# Altium footprint library RC_Car_ATMEGA8.PcbLib: 23 footprints (part 1 of 2)
Each footprint in its own frame and in the unit in brackets; x right, y up, seen from the top. Pads: shape width x height; smd on the part's side, far side on the other; paste and mask are expansions set on the pad; w line width, h text height; cw(c..) or ccw(c..) is an arc to the next point about the centre after c.
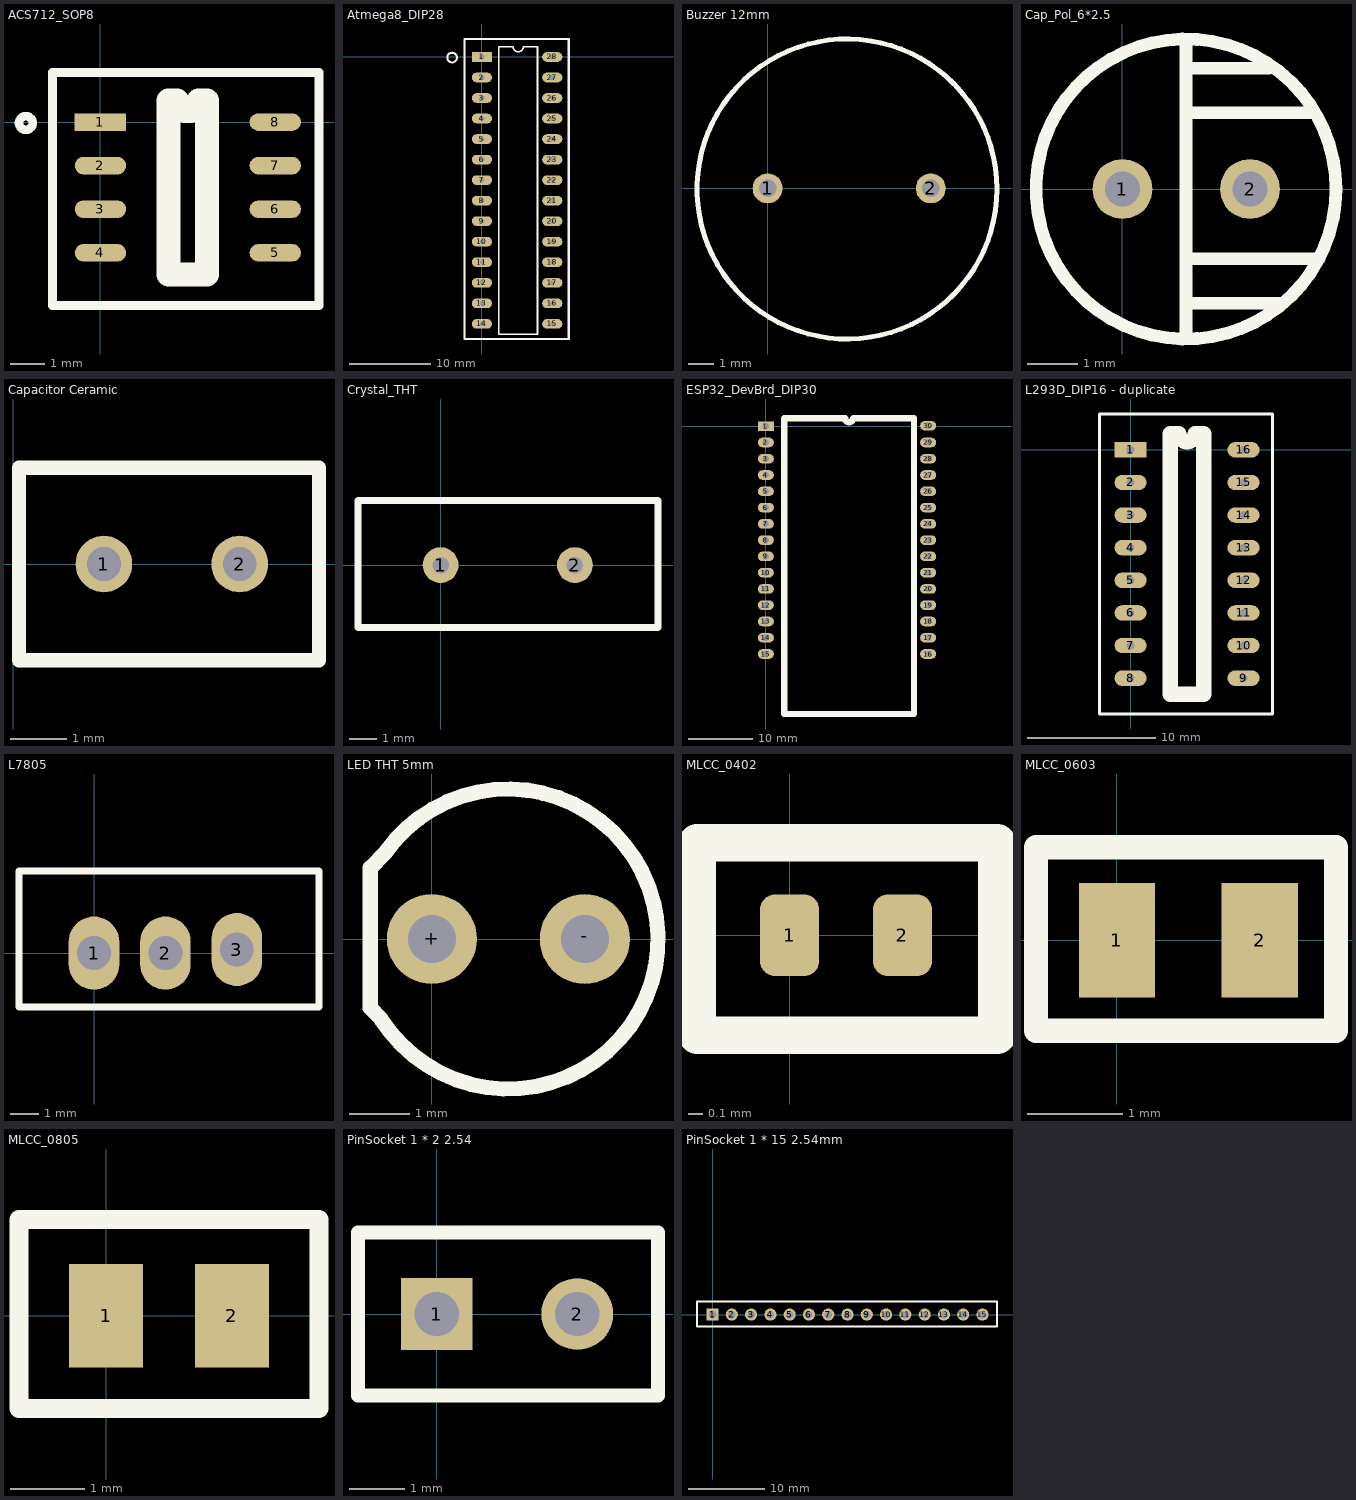
[diagram p0: the footprints below, top view; thin cyan lines are the x and y axes]

## ACS712_SOP8 [mm]
pads (8):
  rect 1.5x0.51 smd: 1(0,0)
  oval 1.5x0.51 smd: 2(0,-1.27) 3(0,-2.54) 4(0,-3.81) 5(5.1,-3.81) 6(5.1,-2.54) 7(5.1,-1.27) 8(5.1,0)
Top Overlay:
  circle w0.254: c-2.175,-0.025 r0.2
  lines w0.254: -1.4,-5.35 6.375,-5.35 6.375,1.45 -1.4,1.45 -1.4,-5.35
  lines w0.7: 1.985,-4.445 1.985,0.635 2.232,0.635 ccw(c2.55,0.635) 2.867,0.635 3.115,0.635 3.115,-4.445 1.985,-4.445
Assembly Notes:
  text ".Designator" at -0.425,-2.125 h0.6
3D body "ACS712ELCTR-05B-T.STEP": height 1.75, standoff 0, extent -0.475,-4.375 5.525,0.525

## Atmega8_DIP28 [mm]
pads (28):
  rect 2.5x1.2 hole 0.6: 1(0,0)
  oval 2.5x1.2 hole 0.6: 2(0,-2.54) 3(0,-5.08) 4(0,-7.62) 5(0,-10.16) 6(0,-12.7) 7(0,-15.24) 8(0,-17.78) 9(0,-20.32) 10(0,-22.86) 11(0,-25.4) 12(0,-27.94) 13(0,-30.48) 14(0,-33.02) 15(8.7,-33.02) 16(8.7,-30.48) 17(8.7,-27.94) 18(8.7,-25.4) 19(8.7,-22.86) 20(8.7,-20.32) 21(8.7,-17.78) 22(8.7,-15.24) 23(8.7,-12.7) 24(8.7,-10.16) 25(8.7,-7.62) 26(8.7,-5.08) 27(8.7,-2.54) 28(8.7,0)
Top Overlay:
  circle w0.254: c-3.7,-0.075 r0.597
  lines w0.2: 3.8,1.27 2.085,1.27 2.085,-34.29 6.875,-34.29 6.875,-24.695 6.875,-8.325 6.875,1.27 5.125,1.27 ; 3.84,1.275 ccw(c4.475,1.275) 5.11,1.275
  lines w0.254: -2.142,-34.9 10.735,-34.9 10.735,2.225 -2.142,2.225 -2.142,-34.9
Assembly Notes:
  text ".Designator" at 1.65,-16.575 h0.6
3D body "ATMEGA8A-PU--3DModel-STEP-56544.STEP": height 4.57, standoff -3.43, extent -0.66,-33.848 9.5,0.823

## Buzzer 12mm [mm]
pads (2):
  round 1.2 hole 0.7: 1(0,0) 2(6.525,0)
Top Overlay:
  circle w0.2: c3.175,-0.025 r6
Assembly Notes:
  text ".Designator" at 0.275,-1.325 h0.6
3D body "CEM-1203-42---3DModel-STEP-56544.STEP": height 8.5, standoff -5.5, extent -2.7,-6 9.3,6

## Cap_Pol_6*2.5 [mm]
pads (2):
  round 1.2 hole 0.7 mask+0.07: 1(0,0) 2(2.55,0)
Top Overlay:
  circle w0.254: c1.27,0 r3
  lines w0.254: 1.27,-2.921 1.27,2.921 ; 1.27,-2.286 3.175,-2.286 ; 1.27,-1.397 3.937,-1.397 ; 1.27,1.524 3.81,1.524 ; 1.27,2.413 2.921,2.413
Assembly Notes:
  text ".Designator" at -1.825,0.725 h0.6
3D body "C_Radial_D6.3mm_H11.0mm_P2.50mm.step": height 11, standoff -2, extent -1.9,-3.15 4.4,3.15

## Capacitor Ceramic [mm]
pads (2):
  round 1 hole 0.6 mask+0.102: 1(1.6,0) 2(4,0)
Top Overlay:
  lines w0.254: 0.1,-1.7 5.4,-1.7 5.4,1.7 0.1,1.7 0.1,-1.7
Assembly Notes:
  text ".Designator" at -0.35,-0.15 h0.6
3D body "C_Disc_D5.0mm_W2.5mm_P2.50mm.step": height 5.1, standoff -2, extent 0.252,-1.25 5.25,1.25

## Crystal_THT [mm]
pads (2):
  round 1.3 hole 0.6 mask+0.102: 1(0,0) 2(4.88,0)
Top Overlay:
  lines w0.254: -3,-2.275 7.9,-2.275 7.9,2.35 -3,2.35 -3,-2.275
Assembly Notes:
  text ".Designator" at -0.625,-0.125 h0.6
3D body "Crystal_HC18-U_Vertical.step": height 13.1, standoff -2.9, extent -2.989,-2.292 7.911,2.358

## ESP32_DevBrd [mm]

## ESP32_DevBrd_DIP30 [mm]
pads (30):
  rect 2.5x1.5 hole 1: 1(0,0)
  oval 2.5x1.5 hole 1: 2(0,-2.54) 3(0,-5.08) 4(0,-7.62) 5(0,-10.16) 6(0,-12.7) 7(0,-15.24) 8(0,-17.78) 9(0,-20.32) 10(0,-22.86) 11(0,-25.4) 12(0,-27.94) 13(0,-30.48) 14(0,-33.02) 15(0,-35.56) 16(25.325,-35.56) 17(25.325,-33.02) 18(25.325,-30.48) 19(25.325,-27.94) 20(25.325,-25.4) 21(25.325,-22.86) 22(25.325,-20.32) 23(25.325,-17.78) 24(25.325,-15.24) 25(25.325,-12.7) 26(25.325,-10.16) 27(25.325,-7.62) 28(25.325,-5.08) 29(25.325,-2.54) 30(25.325,0.075)
Top Overlay:
  lines w1: 2.885,-44.925 23.115,-44.925 23.115,1.27 13.635,1.27 cw(c13,1.27) 12.365,1.27 2.885,1.27 2.885,-44.925
3D body "ESP32-DEVKITC--3DModel-STEP-56544.STEP": height 7.25, standoff -5.44, extent -1.395,-50.525 26.545,4.575

## L293D_DIP16 - duplicate [mm]
pads (16):
  rect 2.5x1.2 hole 0.6: 1(0,0)
  oval 2.5x1.2 hole 0.6: 2(0,-2.54) 3(0,-5.08) 4(0,-7.62) 5(0,-10.16) 6(0,-12.7) 7(0,-15.24) 8(0,-17.78) 9(8.8,-17.78) 10(8.8,-15.24) 11(8.8,-12.7) 12(8.8,-10.16) 13(8.8,-7.62) 14(8.8,-5.08) 15(8.8,-2.54) 16(8.8,0)
Top Overlay:
  lines w0.254: -2.413,-20.574 11.049,-20.574 11.049,2.794 -2.413,2.794 -2.413,-20.574
  lines w1.2: 3.085,-19.05 5.715,-19.05 5.715,1.27 5.035,1.27 cw(c4.4,1.27) 3.765,1.27 3.085,1.27 3.085,-19.05
Assembly Notes:
  text ".Designator" at 0.685,1.52 h0.6
3D body "L293D--3DModel-STEP-56544.STEP": height 5.1, standoff -3.3, extent -0.13,-18.839 9.111,1.161

## L7805 [mm] "Voltage regulator"
pads (3):
  oval 1.8x2.6 hole 1.2 mask+0.102: 1(0,0) 2(2.54,0) 3(5.08,0.127)
Top Overlay:
  lines w0.254: -2.667,-1.918 -2.667,2.92 8.001,2.92 8.001,1.71 8.001,-0.709 8.001,-1.918 -2.667,-1.918
3D body "TO-220-3_Vertical.step": height 22.77, standoff -5.75, extent -2.509,-1.365 7.741,3.09

## LED THT 5mm [mm]
pads (2):
  round 1.5 hole 0.8 mask+0.102: +(0,0) -(2.55,0)
Top Overlay:
  lines w0.254: -1.025,-1.152 -0.847,-1.33 ccw(c1.27,0) -0.778,1.434 -1.025,1.187 -1.025,-1.136 -1.025,-1.152
Assembly Notes:
  text ".Designator" at -1.728,-0.258 h0.6
3D body "LED_D5.0mm.step": height 11.6, standoff -2.5, extent -1.23,-2.898 4.158,2.898

## MLCC_0402 [mm]
pads (2):
  rrect50% 0.4x0.55 smd mask+0.07: 1(0,0) 2(0.762,0)
Top Overlay:
  lines w0.254: -0.625,-0.675 1.4,-0.675 1.4,0.625 -0.625,0.625 -0.625,-0.675
Assembly Notes:
  text ".Designator" at -0.585,-0.137 h0.2
3D body "C_0402_1005Metric.step": height 0.5, standoff 0, extent -0.111,-0.25 0.889,0.25

## MLCC_0603 [mm]
pads (2):
  rect 0.8x1.2 smd mask+0.102: 1(0,0) 2(1.5,0)
Top Overlay:
  lines w0.254: -0.85,-0.95 2.3,-0.95 2.3,0.975 -0.85,0.975 -0.85,-0.95
Assembly Notes:
  text ".Designator" at -2.05,-0.075 h0.6
3D body "C_0603_1608Metric.step": height 0.8, standoff 0, extent -0.1,-0.375 1.5,0.425

## MLCC_0805 [mm]
pads (2):
  rect 1x1.4 smd mask+0.102: 1(0,0) 2(1.7,0)
Top Overlay:
  lines w0.254: -1.175,-1.25 2.875,-1.25 2.875,1.3 -1.175,1.3 -1.175,-1.25
Assembly Notes:
  text ".Designator" at -2.1,-0.1 h0.6
3D body "C_0805_2012Metric.step": height 1.25, standoff 0, extent -0.175,-0.625 1.825,0.625

## PinSocket 1 * 2 2.54 [mm]
pads (2):
  rect 1.3x1.3 hole 0.8 mask+0.102: 1(0,0)
  round 1.3 hole 0.8 mask+0.102: 2(2.54,0)
Top Overlay:
  lines w0.254: -1.425,-1.475 4,-1.475 4,1.475 -1.425,1.475 -1.425,-1.475
Assembly Notes:
  text ".Designator" at -1.4,-0.05 h0.6
3D body "PinSocket_1x02_P2.54mm_Vertical.step": height 7, standoff -3.1, extent -1.265,-1.29 3.815,1.25

## PinSocket 1 * 15 2.54mm [mm]
pads (15):
  rect 1.6x1.6 hole 1 mask+0.102: 1(0,0.009)
  round 1.6 hole 1 mask+0.102: 2(2.54,0) 3(5.08,0) 4(7.62,0) 5(10.16,0) 6(12.7,0) 7(15.24,0) 8(17.78,0) 9(20.32,0) 10(22.86,0) 11(25.4,0) 12(27.94,0) 13(30.48,0) 14(33.02,0) 15(35.56,0)
Top Overlay:
  lines w0.254: -2.05,-1.55 37.475,-1.55 37.475,1.7 -2.05,1.7 -2.05,-1.55
Assembly Notes:
  text ".Designator" at 17.575,-0.25 h0.6
3D body "PinSocket_1x15_P2.54mm_Vertical.step": height 7, standoff -3.1, extent -1.325,-1.25 36.775,1.29